# Altium schematic symbol library AMAP4BPEVBKXR Rev 2.SCHLIB: 85 symbols (part 3 of 3)
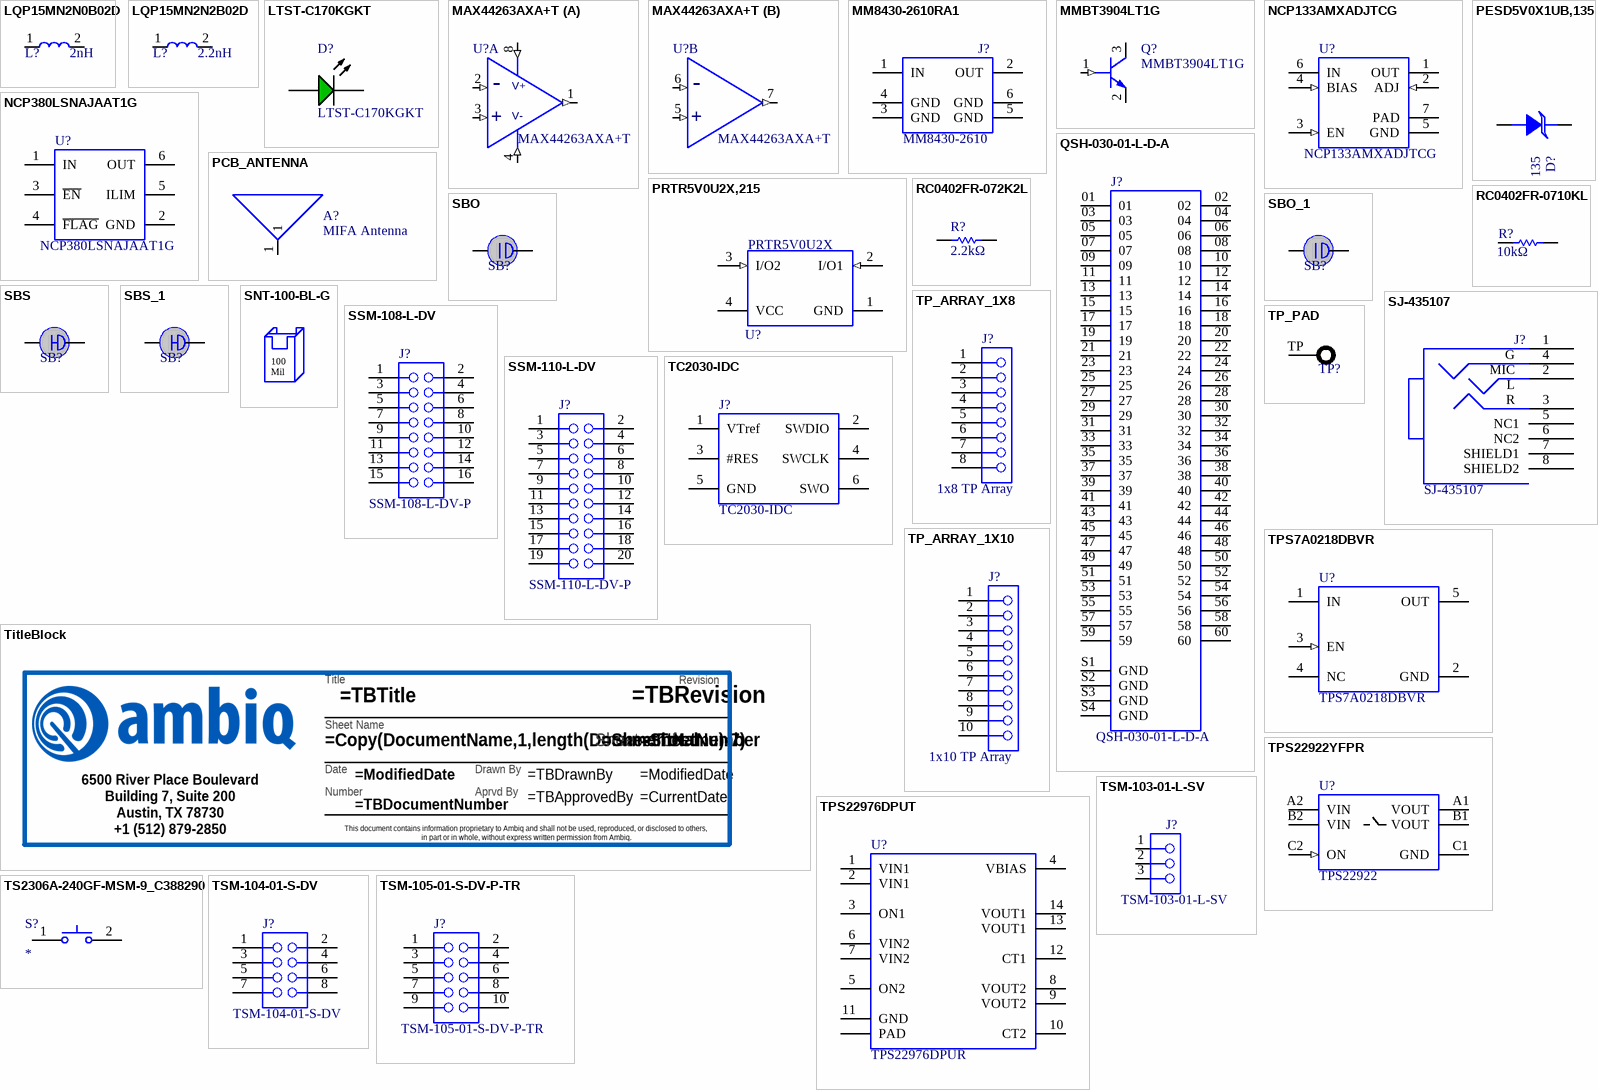
[diagram p4: symbols LQP15MN2N0B02D to TSM-105-01-S-DV-P-TR]

## SBO_1
designator SB?, comment Solderbridge  (value not drawn)  (no BOM)
None; AMBIQ PN: SBO
footprint SB39X18
pins: 1, 2

## SBS
designator SB?, comment Solder short  (value not drawn)  (net tie, no BOM)
None; AMBIQ PN: SBS
footprint SB39X18_SHORTED
pins: 1, 2

## SBS_1
designator SB?, comment SBS  (value not drawn)  (net tie, no BOM)
None; AMBIQ PN: SBS
footprint SB39X18_SHORTED
pins: 1, 2

## SJ-435107
designator J?
None; Manufacturer: CUI; Connector Type: Jack; Gender: Female; Number of Ports: 1; Current Rating: 1A; Shielding: Shielded; Voltage Rating: 12V; Body Material: Brass; Body Color: Silver; Number of Conductors: 4; AMBIQ PN: SJ-435107; Supplier 1: Arrow Electronics; Supplier Part Number 1: SJ-435107; Manufacturer Part Number: SJ-435107; RoHS: Yes; Category: Audio / Video Cables; Mount: Through Hole; Contact Plating: Tin; Packaging: Bulk; Orientation: Horizontal; Termination: Solder; RoHS Compliant: Yes; ComponentLink1URL: https://www.cui.com/product/resource/digikeypdf/sj-435107.pdf?src-supplier=Digi-Key; ComponentLink1Description: https://www.cui.com/product/resource/digikeypdf/sj-435107.pdf?src-supplier=Digi-Key; Series: SJ; Color: Black; Lead Free: Lead Free
footprint JACK_STEREO_RA_SJ-435107
pins: 1 G, 2 L, 3 R, 4 MIC, 5 NC1, 6 NC2, 7 SHIELD1, 8 SHIELD2

## SNT-100-BL-G
designator SH?, comment Shunt 100mil  (value not drawn)  (graphical)
None; Manufacturer: Samtec; AMBIQ PN: SNT-100-BL-G; Contact Resistance: 5mR; Max Current Rating: 2.5A; Number of Contacts: 2; Pitch: 2.54mm; Supplier 1: Arrow Electronics; Supplier Part Number 1: SNT-100-BL-G; Manufacturer Part Number: SNT-100-BL-G; RoHS: Yes; Category: Connectors; Stock 1: 629; Pricing 1: 1=0.36000, 50=0.28000, 100=0.22000 (USD); Package Quantity: 1; Series: SNT; ComponentLink1URL: https://datasheet.ciiva.com/768/snt-mkt-768071.pdf?src-supplier=Digi-Key; ComponentLink1Description: https://datasheet.ciiva.com/768/snt-mkt-768071.pdf?src-supplier=Digi-Key; Contact Material: Bronze; Contact Plating: Gold; Color: Blue; Packaging: Bulk; Orientation: Straight; Length: 50.8mm; Height: 0.24inch; Depth: 2.54mm; RoHS Compliant: Yes; REACH SVHC: No SVHC; Housing Material: Polyester; Min Operating Temperature: -40°C; Max Operating Temperature: 90°C; Radiation Hardening: No; Housing Color: Blue; Number of Rows: 1
text: 100 / Mil

## SSM-108-L-DV
designator J?, comment SSM-108-L-DV-P
None; Manufacturer: Samtec; Connector Type: Receptacle; Number of Contacts: 16; Pitch: 2.54mm; Max Current Rating: 6.9A; Row Spacing: 0.1inch; Max Voltage Rating (AC): 475V; Contact Resistance: 10mR; AMBIQ PN: SSM-108-L-DV; Supplier 1: Newark; Supplier Part Number 1: 11P7889; Manufacturer Part Number: SSM-108-L-DV; RoHS: Yes; Category: Headers and Wire Housings; Stock 1: 2149; Pricing 1: 1=6.04000, 50=5.23000, 100=4.43000, 500=3.14000, 1000=2.38000 (USD); Contact Material: Bronze; Contact Plating: Gold; Housing Material: Polymer; Min Operating Temperature: -55°C; Max Operating Temperature: 125°C; Packaging: Bulk; Gender: Receptacle; Orientation: Vertical; Termination: Solder; Length: 20.32mm; REACH SVHC: No SVHC; RoHS Compliant: Yes; ComponentLink1URL: https://datasheet.ciiva.com/746/ssm-1xx-xxx-dv-xx-xx-x-xx-mkt-746637.pdf?src-supplier=Digi-Key; ComponentLink1Description: https://datasheet.ciiva.com/746/ssm-1xx-xxx-dv-xx-xx-x-xx-mkt-746637.pdf?src-supplier=Digi-Key; Housing Color: Black; Number of Rows: 2; Number of Positions: 16; Series: SSM; Depth: 5.08mm; Radiation Hardening: No; Color: Black; Contact Type: Female Socket; Lead Free: Lead Free; Width: 5.08mm
footprint SSM-108-X-DV-P
footprint SSM-108-X-DV-CUSTOM
pins: 1 A1, 2 B1, 3 A2, 4 B2, 5 A3, 6 B3, 7 A4, 8 B4, 9 A5, 10 B5, 11 A6, 12 B6, 13 A7, 14 B7, 15 A8, 16 B8

## SSM-110-L-DV
designator J?, comment SSM-110-L-DV-P
None; Manufacturer: Samtec; Connector Type: Receptacle; Number of Contacts: 20; Current Rating: 6.9A; Pitch: 2.54mm; Row Spacing: 0.1inch; Voltage Rating (AC): 475V; Contact Resistance: 10mR; AMBIQ PN: SSM-110-L-DV; Supplier 1: Arrow Electronics; Supplier Part Number 1: SSM-110-L-DV; Manufacturer Part Number: SSM-110-L-DV; RoHS: Yes; Category: Headers and Wire Housings; Stock 1: 117; Pricing 1: 22=4.30780, 66=3.51400, 110=2.98480 (USD); Contact Material: Bronze; Contact Plating: Gold; Housing Material: Polymer; Min Operating Temperature: -55°C; Max Operating Temperature: 125°C; Packaging: Bulk; Gender: Receptacle; Orientation: Vertical; Termination: Solder; Length: 25.4mm; REACH SVHC: No SVHC; RoHS Compliant: Yes; ComponentLink1URL: https://datasheet.ciiva.com/25617/0900766b81159474-25617983.pdf?src-supplier=RSComponents; ComponentLink1Description: https://datasheet.ciiva.com/25617/0900766b81159474-25617983.pdf?src-supplier=RSComponents; Housing Color: Black; Number of Rows: 2; Number of Positions: 20; Series: SSM; Depth: 5.08mm; Radiation Hardening: No; Color: Black; Contact Type: Female Socket; Max Current Rating: 6.9A; Lead Free: Lead Free; Max Voltage Rating (AC): 475V; Voltage Rating: 475V
footprint SSM-110-X-DV-P
footprint SSM-110-X-DV-CUSTOM
pins: 1 A1, 2 B1, 3 A2, 4 B2, 5 A3, 6 B3, 7 A4, 8 B4, 9 A5, 10 B5, 11 A6, 12 B6, 13 A7, 14 B7, 15 A8, 16 B8, 17 A9, 18 B9, 19 A10, 20 B10

## TC2030-IDC
designator J?  (no BOM)
None; Manufacturer: Tag-Connect; AMBIQ PN: TC2030-IDC; Supplier 1: Digi-Key; Supplier Part Number 1: TC2030-IDC-ND; Manufacturer Part Number: TC2030-IDC; RoHS: Yes; Category: Connectors; Stock 1: 778; Pricing 1: 1=42.44000 (USD); ComponentLink1URL: http://www.tag-connect.com/Materials/TC2030-IDC.pdf?src-supplier=Digi-Key; ComponentLink1Description: http://www.tag-connect.com/Materials/TC2030-IDC.pdf?src-supplier=Digi-Key; Package Quantity: 1
footprint TC2030-IDC
footprint TC2030-IDC-NL
pins: 1 VTref (power) "Vref", 2 SWDIO, 3 #RES, 4 SWCLK, 5 GND (power) "Ground", 6 SWO

## TitleBlock
designator ??  (value not drawn)  (graphical)
Title block for Ambiq Schematics. Please have the following parameters entered in Project>Project Options>Parameters: / TBTitle / TBDocumentNumber / TBRevision / TBDrawnBy / TBApprovedBy; AMBIQ PN: TitleBlock
text: Revision; Title; Sheet Name; Sheet; of; Date; Drawn By; Number; Aprvd By; 6500 River Place Boulevard / Building 7, Suite 200 / Austin, TX 78730 / +1 (512) 879-2850; This document contains information proprietary to Ambiq and shall not be used, reproduced, or disclosed to others, / in part or in whole, without express written permission from Ambiq.

## TP_ARRAY_1X8
designator J?, comment 1x8 TP Array  (no BOM)
None; AMBIQ PN: TP_ARRAY_1X8
footprint TP35H59P_1X8
pins: 1, 2, 3, 4, 5, 6, 7, 8

## TP_ARRAY_1X10
designator J?, comment 1x10 TP Array  (no BOM)
None; AMBIQ PN: TP_ARRAY_1X10
footprint TP35H59P_1X10
pins: 1, 2, 3, 4, 5, 6, 7, 8, 9, 10

## TP_PAD
designator TP?, comment PAD  (value not drawn)  (no BOM)
None; AMBIQ PN: TP_PAD
footprint TPPAD_0.5mm
footprint TPPAD_1.5mm
pins: TP

## TPS7A0218DBVR
designator U?
None; Manufacturer: Texas Instruments; AMBIQ PN: TPS7A0218DBVR; Manufacturer Part Number: TPS7A0218DBVR; Supplier 1: Mouser; Supplier Part Number 1: 595-TPS7A0218DBVR; RoHS: No; Category: Voltage Regulators - Linear; Stock 1: 2935; Pricing 1: 1=1.58000, 10=1.42000, 25=1.35000, 50=1.35000, 100=1.11000, 250=1.04000, 500=0.91300, 1000=0.72100, 3000=0.69600, 10000=0.69600
footprint SOT95P280X145-5N
pins: 1 IN (power), 2 GND (power), 3 EN (in), 4 NC, 5 OUT (power)

## TPS22922YFPR
designator U?, comment TPS22922
None; Manufacturer: Texas Instruments; AMBIQ PN: TPS22922YFPR; Interface: On/Off; Nominal Supply Current: 120nA; Number of Outputs: 1; Max Output Current: 2A; Output Configuration: High Side; Max Power Dissipation: 645mW; On-State Resistance: 45mR; Operating Supply Voltage: 3.6V; Min Input Voltage: 900mV; Quiescent Current: 200nA; Turn-On Delay Time: 45us; Turn-Off Delay Time: 139us; Manufacturer Part Number: TPS22922YFPR; Supplier 1: Arrow Electronics; Supplier Part Number 1: TPS22922YFPR; RoHS: Yes; Category: Hot Swap Controllers; Stock 1: 2092; Pricing 1: 1=0.96850, 10=0.86300, 25=0.81190, 100=0.66430, 250=0.61530, 500=0.53900, 1000=0.42280 (USD); Number of Pins: 6; Min Operating Temperature: -40°C; Max Operating Temperature: 85°C; Package Quantity: 3000; Packaging: Tape and Reel; Supply Current: 120nA; Series: TPS22922; Lead Free: Lead Free; RoHS Compliant: Yes; ComponentLink1URL: https://datasheet.ciiva.com/15103/getdatasheetpartid-215983-15103996.pdf?src-supplier=Verical; ComponentLink1Description: https://datasheet.ciiva.com/15103/getdatasheetpartid-215983-15103996.pdf?src-supplier=Verical; ComponentLink2URL: https://datasheet.ciiva.com/1962/tps22921-1962551.pdf?src-supplier=Digi-Key; ComponentLink2Description: https://datasheet.ciiva.com/1962/tps22921-1962551.pdf?src-supplier=Digi-Key; Radiation Hardening: No; Output Current: 2A; Power Dissipation: 645mW; Number of Channels: 1; Max Input Voltage: 3.6V; ComponentLink3URL: https://datasheet.ciiva.com/1962/tps22921-1962550.; ComponentLink3Description: https://datasheet.ciiva.com/1962/tps22921-1962550.; ComponentLink4URL: https://datasheet.ciiva.com/1962/tps22921-1962552.; ComponentLink4Description: https://datasheet.ciiva.com/1962/tps22921-1962552.; ComponentLink5URL: https://datasheet.ciiva.com/3233/tps22922b-3233573; ComponentLink5Description: https://datasheet.ciiva.com/3233/tps22922b-3233573; Halogen Free: Halogen Free; ComponentLink6URL: https://datasheet.ciiva.com/3234/ncp380-d-3234430.; ComponentLink6Description: https://datasheet.ciiva.com/3234/ncp380-d-3234430.; ComponentLink7URL: https://datasheet.ciiva.com/1939/ncp380-d-1939781.; ComponentLink7Description: https://datasheet.ciiva.com/1939/ncp380-d-1939781.; ComponentLink8URL: https://datasheet.ciiva.com/1939/ncp380-d-1939782.; ComponentLink8Description: https://datasheet.ciiva.com/1939/ncp380-d-1939782.; ComponentLink9URL: https://datasheet.ciiva.com/1939/ncp380-d-1939783.; ComponentLink9Description: https://datasheet.ciiva.com/1939/ncp380-d-1939783.; Reach SVHC Compliant: Yes; ComponentLink10URL: https://datasheet.ciiva.com/16468/ncp380-d-1646871; ComponentLink10Description: https://datasheet.ciiva.com/16468/ncp380-d-1646871
footprint BGA6C50P2X3_90X140X55
pins: A1 VOUT (power) "Switch output", A2 VIN (power) "Switch input. Use a bypass capacitor to ground (ceramic)", B1 VOUT (power) "Switch output", B2 VIN (power) "Switch input. Use a bypass capacitor to ground (ceramic)", C1 GND "Ground", C2 ON (in) "Switch control input, active high. Do not leave floating"

## TPS22976DPUT
designator U?, comment TPS22976DPUR
None; Manufacturer: Texas Instruments; AMBIQ PN: TPS22976DPUT; Max Supply Voltage: 6V; Min Supply Voltage: 2.3V; Interface: On/Off; Output Type: Adjustable; Number of Outputs: 2; Max Output Current: 6A; Fault Protection: Over Temperature; Output Configuration: High Side; Output Current: 1A; Output Voltage: 5V; Quiescent Current: 220uA; Polarity: Positive; Accuracy: 0.5%; Dropout Voltage: 250mV; Input Bias Current: 120uA; Min Output Voltage: 800mV; Reference Voltage: 410mV; Manufacturer Part Number: TPS22976DPUT; Supplier 1: Arrow Electronics; Supplier Part Number 1: TPS22976DPUT; RoHS: Yes; Category: Power Management ICs; Stock 1: 250; Pricing 1: 1=0.70530, 10=0.67280, 25=0.64030, 100=0.60770, 250=0.57510 (USD); Number of Pins: 14; Min Operating Temperature: -40°C; Max Operating Temperature: 105°C; Package Quantity: 4000; Packaging: Tape and Reel; REACH SVHC: No SVHC; Lead Free: Lead Free; RoHS Compliant: Yes; ComponentLink1URL: http://www.ti.com/general/docs/suppproductinfo.tsp?distId=10&amp;gotoUrl=http%3A%2F%2Fwww.ti.com%2Flit%2Fgpn%2Ftps22976&src-sup; ComponentLink1Description: http://www.ti.com/general/docs/suppproductinfo.tsp?distId=10&amp;gotoUrl=http%3A%2F%2Fwww.ti.com%2Flit%2Fgpn%2Ftps22976&src-sup; ComponentLink2URL: https://datasheet.ciiva.com/41458/001085984-da-01-en-ic-reg-ld-mcp1826t-adje-dc-sot-223-5-mcp-41458757.pdf?src-supplier=Conrad; ComponentLink2Description: https://datasheet.ciiva.com/41458/001085984-da-01-en-ic-reg-ld-mcp1826t-adje-dc-sot-223-5-mcp-41458757.pdf?src-supplier=Conrad; Length: 0.257inch; Width: 0.14inch; Height: 0.065inch; Radiation Hardening: No; Number of Channels: 2; Max Input Voltage: 6V; Min Input Voltage: 2.3V; Output Voltage Accuracy: 0.5%; Max Output Voltage: 5V; Termination: SMD/SMT; Halogen Free: Halogen Free
footprint R-PWSON50P300x200-N14
pins: 1 VIN1, 2 VIN1, 3 ON1, 4 VBIAS, 5 ON2, 6 VIN2, 7 VIN2, 8 VOUT2, 9 VOUT2, 10 CT2, 11 GND, 12 CT1, 13 VOUT1, 14 VOUT1, PAD

## TS2306A-240GF-MSM-9_C388290
designator S?
Switch (2-Pin Push); Manufacturer_Name: Shou Han; Manufacturer_Part_Number: TS2306A-240GF-MSM-9_C388290; Description: Tactile Switches SPST 3.00mm x 2.00mm 0.60mm 10mA @ 5VDC SMD RoHS; Datasheet Link: https://datasheet.lcsc.com/szlcsc/1904241742_SHOU-HAN-TS2306A-240gf-MSM-9_C388290.pdf; Height: 1mm
footprint TS2306A240GFMSM9_C388290
pins: 1 NO, 2 COM

## TSM-103-01-L-SV
designator J?
None; Manufacturer: Samtec; Connector Type: Male Pin; Number of Contacts: 3; Gender: Male; Current Rating: 7A; Pitch: 2.54mm; Max Voltage Rating (AC): 475V; AMBIQ PN: TSM-103-01-L-SV; Supplier 1: Arrow Electronics; Supplier Part Number 1: TSM-103-01-L-SV; Manufacturer Part Number: TSM-103-01-L-SV; RoHS: Yes; Category: Headers and Wire Housings; Stock 1: 365; Pricing 1: 1=0.58000, 50=0.45000, 100=0.37000 (USD); Mount: Surface Mount; Contact Material: Bronze; Contact Plating: Gold; Housing Material: Polymer; Min Operating Temperature: -55°C; Max Operating Temperature: 125°C; Packaging: Bulk; Orientation: Straight; Termination: Solder; Length: 7.62mm; REACH SVHC: No SVHC; ComponentLink1URL: https://datasheet.ciiva.com/739/tsm-1xx-xx-xxx-sv-xx-xxx-xx-mkt-739582.pdf?src-supplier=Digi-Key; ComponentLink1Description: https://datasheet.ciiva.com/739/tsm-1xx-xx-xxx-sv-xx-xxx-xx-mkt-739582.pdf?src-supplier=Digi-Key; Housing Color: Black; Number of Rows: 1; Number of Positions: 3; Series: TSM; Depth: 2.54mm; Radiation Hardening: No; Color: Black; Contact Type: Male Pin; Package Quantity: 1; Max Current Rating: 7A; Contact Mating Length: 0.23inch; Lead Free: Lead Free; Voltage Rating: 475V
footprint TSM-103-01-L-SV
pins: 1, 2, 3

## TSM-104-01-S-DV
designator J?
None; Manufacturer: Samtec; Connector Type: Header; Number of Contacts: 8; Gender: Male; Pitch: 2.54mm; Max Current Rating: 7A; Row Spacing: 0.1inch; Max Voltage Rating (AC): 475V; AMBIQ PN: TSM-104-01-S-DV; Supplier 1: Arrow Electronics; Supplier Part Number 1: TSM-104-01-S-DV; Manufacturer Part Number: TSM-104-01-S-DV; RoHS: Yes; Category: Headers and Wire Housings; Stock 1: 21; Pricing 1: 1=1.87000, 50=1.52000, 100=1.29000 (USD); Contact Material: Bronze; Contact Plating: Gold; Housing Material: Polymer; Insulation Color: Black; Min Operating Temperature: -55°C; Max Operating Temperature: 125°C; Packaging: Rail/Tube; Orientation: Vertical; Termination: Solder; Length: 10.16mm; REACH SVHC: No SVHC; Flammability Rating: UL94 V-0; RoHS Compliant: Yes; ComponentLink1URL: https://datasheet.ciiva.com/19461/2027522-19461911.pdf?src-supplier=Jameco; ComponentLink1Description: https://datasheet.ciiva.com/19461/2027522-19461911.pdf?src-supplier=Jameco; Housing Color: Black; Number of Rows: 2; Number of Positions: 8; Series: TSM; Depth: 5.08mm; Radiation Hardening: No; Color: Black; Contact Type: Male Pin; Package Quantity: 1; Contact Mating Length: 0.23inch; Lead Free: Lead Free; Insulation Material: Polymer; Fastening Type: Pull; Height: 9.65mm; Contact Shape: Square; Contact Finish - Mating: GOLD
footprint TSM-104-XX-XXX-DV
footprint TSM-104-XX-XXX-DV-CUSTOM
pins: 1 A1, 2 B1, 3 A2, 4 B2, 5 A3, 6 B3, 7 A4, 8 B4

## TSM-105-01-S-DV-P-TR
designator J?, comment AMBIQ PN: TSM-105-01-S-DV-P-TR  (hidden comment: TSM-105-01-X-DV)
None; Manufacturer: Samtec; Connector Type: Male Pin; Number of Contacts: 10; Gender: Male; Pitch: 2.54mm; Max Current Rating: 7A; Row Spacing: 0.1inch; Max Voltage Rating (AC): 475V; Supplier 1: Arrow Electronics; Supplier Part Number 1: TSM-105-01-S-DV-P-TR; Manufacturer Part Number: TSM-105-01-S-DV-P-TR; RoHS: Yes; Category: Headers and Wire Housings; Mount: Surface Mount; Contact Material: Bronze; Contact Plating: Gold; Housing Material: Polymer; Min Operating Temperature: -55°C; Max Operating Temperature: 125°C; Packaging: Tape and Reel; Orientation: Straight; Termination: Solder; Length: 12.7mm; REACH SVHC: No SVHC; RoHS Compliant: Yes; ComponentLink1URL: https://datasheet.ciiva.com/739/tsm-1xx-xx-xxx-xx-x-xxx-x-mkt-739649.pdf?src-supplier=Digi-Key; ComponentLink1Description: https://datasheet.ciiva.com/739/tsm-1xx-xx-xxx-xx-x-xxx-x-mkt-739649.pdf?src-supplier=Digi-Key; Housing Color: Black; Number of Rows: 2; Number of Positions: 10; Series: TSM; Depth: 5.08mm; Radiation Hardening: No; Color: Black; Contact Type: Male Pin; Package Quantity: 150; Contact Mating Length: 0.23inch; Lead Free: Lead Free
footprint SMTC-TSM-105-01-X-DV
pins: 1 A1, 2 B1, 3 A2, 4 B2, 5 A3, 6 B3, 7 A4, 8 B4, 9 A5, 10 B5